# Altium footprint library 19inch.PCBLIB: 26 footprints (part 1 of 3)
Each footprint in its own frame and in the unit in brackets; x right, y up, seen from the top. Pads: shape width x height; smd on the part's side, far side on the other; paste and mask are expansions set on the pad; w line width, h text height; cw(c..) or ccw(c..) is an arc to the next point about the centre after c.
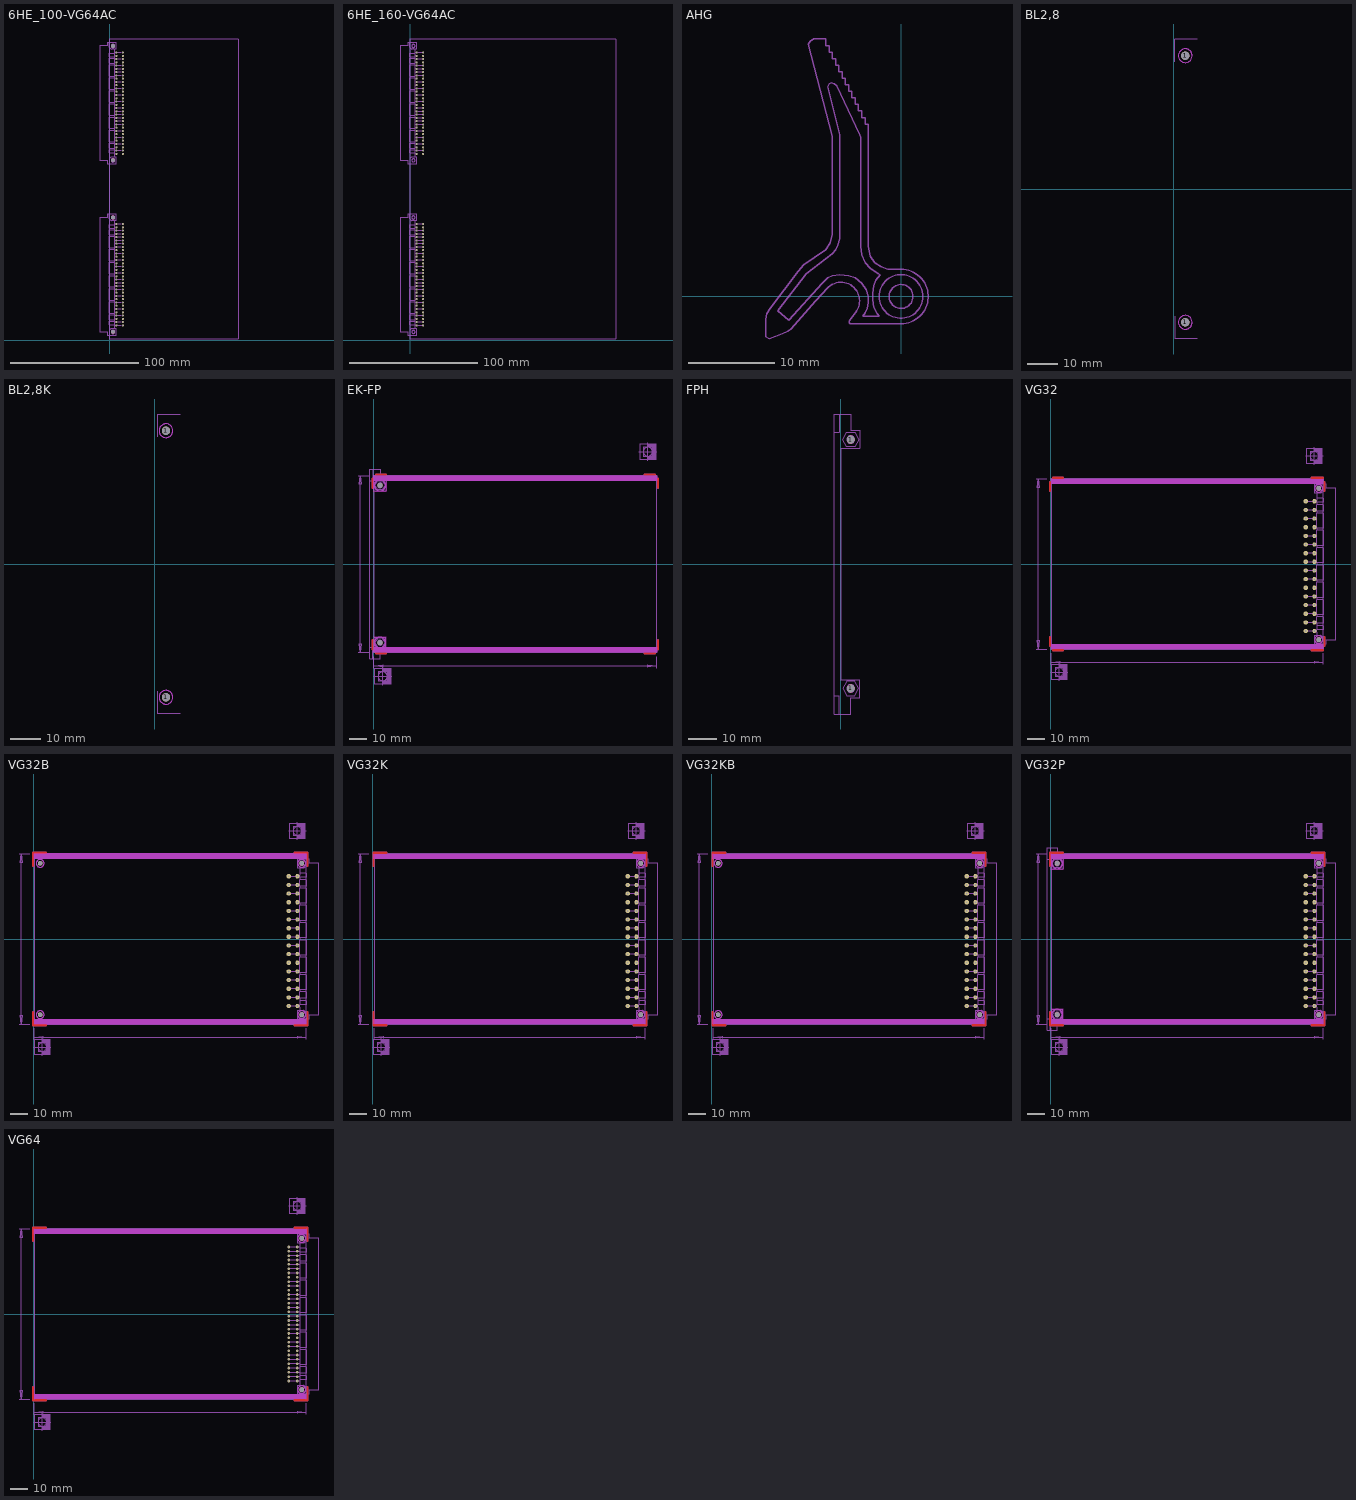
[diagram p0: the footprints below, top view; thin cyan lines are the x and y axes]

## 6HE_100-VG64AC [mil]
pads (132):
  round 110 hole 110: 1(100,250) 1(100,3750) 1(100,5500) 1(100,9000)
  oct 61x61 hole 36: 1-A1(200,450) 1-A2(200,650) 1-A3(200,550) 1-A4(200,750) 1-A5(200,850) 1-A6(200,950) 1-A7(200,1050) 1-A8(200,1150) 1-A9(200,1250) 1-A10(200,1350) 1-A11(200,1450) 1-A12(200,1550) 1-A13(200,1650) 1-A14(200,1750) 1-A15(200,1850) 1-A16(200,1950) 1-A17(200,2050) 1-A18(200,2150) 1-A19(200,2250) 1-A20(200,2350) 1-A21(200,2450) 1-A22(200,2550) 1-A23(200,2650) 1-A24(200,2750) 1-A25(200,2850) 1-A26(200,2950) 1-A27(200,3050) 1-A28(200,3150) 1-A29(200,3250) 1-A30(200,3350) 1-A31(200,3450) 1-A32(200,3550) 1-C1(400,450) 1-C2(400,550) 1-C3(400,650) 1-C4(400,750) 1-C5(400,850) 1-C6(400,950) 1-C7(400,1050) 1-C8(400,1150) 1-C9(400,1250) 1-C10(400,1350) 1-C11(400,1450) 1-C12(400,1550) 1-C13(400,1650) 1-C14(400,1750) 1-C15(400,1850) 1-C16(400,1950) 1-C17(400,2050) 1-C18(400,2150) 1-C19(400,2250) 1-C20(400,2350) 1-C21(400,2450) 1-C22(400,2550) 1-C23(400,2650) 1-C24(400,2750) 1-C25(400,2850) 1-C26(400,2950) 1-C27(400,3050) 1-C28(400,3150) 1-C29(400,3250) 1-C30(400,3350) 1-C31(400,3450) 1-C32(400,3550) 2-A1(200,5700) 2-A2(200,5800) 2-A3(200,5900) 2-A4(200,6000) 2-A5(200,6100) 2-A6(200,6200) 2-A7(200,6300) 2-A8(200,6400) 2-A9(200,6500) 2-A10(200,6600) 2-A11(200,6700) 2-A12(200,6800) 2-A13(200,6900) 2-A14(200,7000) 2-A15(200,7100) 2-A16(200,7200) 2-A17(200,7300) 2-A18(200,7400) 2-A19(200,7500) 2-A20(200,7600) 2-A21(200,7700) 2-A22(200,7800) 2-A23(200,7900) 2-A24(200,8000) 2-A25(200,8100) 2-A26(200,8200) 2-A27(200,8300) 2-A28(200,8400) 2-A29(200,8500) 2-A30(200,8600) 2-A31(200,8700) 2-A32(200,8800) 2-C1(400,5700) 2-C2(400,5800) 2-C3(400,5900) 2-C4(400,6000) 2-C5(400,6100) 2-C6(400,6200) 2-C7(400,6300) 2-C8(400,6400) 2-C9(400,6500) 2-C10(400,6600) 2-C11(400,6700) 2-C12(400,6800) 2-C13(400,6900) 2-C14(400,7000) 2-C15(400,7100) 2-C16(400,7200) 2-C17(400,7300) 2-C18(400,7400) 2-C19(400,7500) 2-C20(400,7600) 2-C21(400,7700) 2-C22(400,7800) 2-C23(400,7900) 2-C24(400,8000) 2-C25(400,8100) 2-C26(400,8200) 2-C27(400,8300) 2-C28(400,8400) 2-C29(400,8500) 2-C30(400,8600) 2-C31(400,8700) 2-C32(400,8800)
Mechanical 1:
  lines w0: -10.24,32 -10.24,9214 3926.77,9214 3926.77,32 -10.24,32
Mechanical 2:
  drawing of 268 lines, arcs and shapes, not listed
Mechanical 16:
  circle w0.04: c99.76,3750 r55
  circle w0.04: c99.76,5500 r55
  circle w0.04: c99.76,250 r55
  circle w0.04: c99.76,9000 r55
  lines w0: 42.79,250 99.76,250 ; 42.79,3750 99.76,3750 ; 42.79,9000 99.76,9000 ; 44.76,5500 99.76,5500 ; 99.76,193.46 99.76,250 ; 99.76,307.64 99.76,250 ; 99.76,3693.46 99.76,3750 ; 99.76,3806.98 99.76,3750 ; 99.76,5445.43 99.76,5500 ; 99.76,5555.01 99.76,5500 ; 99.76,8943.46 99.76,9000 ; 99.76,9056.98 99.76,9000 ; 155.43,5500 99.76,5500 ; 157.18,250 99.76,250 ; 157.4,3750 99.76,3750 ; 157.4,9000 99.76,9000

## 6HE_160-VG64AC [mil]
pads (128):
  oct 61x61 hole 36: 1-A1(200,450) 1-A2(200,650) 1-A3(200,550) 1-A4(200,750) 1-A5(200,850) 1-A6(200,950) 1-A7(200,1050) 1-A8(200,1150) 1-A9(200,1250) 1-A10(200,1350) 1-A11(200,1450) 1-A12(200,1550) 1-A13(200,1650) 1-A14(200,1750) 1-A15(200,1850) 1-A16(200,1950) 1-A17(200,2050) 1-A18(200,2150) 1-A19(200,2250) 1-A20(200,2350) 1-A21(200,2450) 1-A22(200,2550) 1-A23(200,2650) 1-A24(200,2750) 1-A25(200,2850) 1-A26(200,2950) 1-A27(200,3050) 1-A28(200,3150) 1-A29(200,3250) 1-A30(200,3350) 1-A31(200,3450) 1-A32(200,3550) 1-C1(400,450) 1-C2(400,550) 1-C3(400,650) 1-C4(400,750) 1-C5(400,850) 1-C6(400,950) 1-C7(400,1050) 1-C8(400,1150) 1-C9(400,1250) 1-C10(400,1350) 1-C11(400,1450) 1-C12(400,1550) 1-C13(400,1650) 1-C14(400,1750) 1-C15(400,1850) 1-C16(400,1950) 1-C17(400,2050) 1-C18(400,2150) 1-C19(400,2250) 1-C20(400,2350) 1-C21(400,2450) 1-C22(400,2550) 1-C23(400,2650) 1-C24(400,2750) 1-C25(400,2850) 1-C26(400,2950) 1-C27(400,3050) 1-C28(400,3150) 1-C29(400,3250) 1-C30(400,3350) 1-C31(400,3450) 1-C32(400,3550) 2-A1(200,5700) 2-A2(200,5800) 2-A3(200,5900) 2-A4(200,6000) 2-A5(200,6100) 2-A6(200,6200) 2-A7(200,6300) 2-A8(200,6400) 2-A9(200,6500) 2-A10(200,6600) 2-A11(200,6700) 2-A12(200,6800) 2-A13(200,6900) 2-A14(200,7000) 2-A15(200,7100) 2-A16(200,7200) 2-A17(200,7300) 2-A18(200,7400) 2-A19(200,7500) 2-A20(200,7600) 2-A21(200,7700) 2-A22(200,7800) 2-A23(200,7900) 2-A24(200,8000) 2-A25(200,8100) 2-A26(200,8200) 2-A27(200,8300) 2-A28(200,8400) 2-A29(200,8500) 2-A30(200,8600) 2-A31(200,8700) 2-A32(200,8800) 2-C1(400,5700) 2-C2(400,5800) 2-C3(400,5900) 2-C4(400,6000) 2-C5(400,6100) 2-C6(400,6200) 2-C7(400,6300) 2-C8(400,6400) 2-C9(400,6500) 2-C10(400,6600) 2-C11(400,6700) 2-C12(400,6800) 2-C13(400,6900) 2-C14(400,7000) 2-C15(400,7100) 2-C16(400,7200) 2-C17(400,7300) 2-C18(400,7400) 2-C19(400,7500) 2-C20(400,7600) 2-C21(400,7700) 2-C22(400,7800) 2-C23(400,7900) 2-C24(400,8000) 2-C25(400,8100) 2-C26(400,8200) 2-C27(400,8300) 2-C28(400,8400) 2-C29(400,8500) 2-C30(400,8600) 2-C31(400,8700) 2-C32(400,8800)
Mechanical 1:
  lines w0: -10.24,32 -10.24,9214 6288.98,9214 6288.98,32 -10.24,32
Mechanical 2:
  drawing of 272 lines, arcs and shapes, not listed

## AHG [mil]
Mechanical 2:
  circle w6: c0,0 r55
  circle w6: c0,0 r100
  lines w6: -337.89,37.18 cw(c-274.99,-20) -189.99,-20 cw(c-275.01,-19.99) -207.91,-72.19 ; -335,40 -390,-20 -505,-150 -520,-160 -545,-170 -605,-195 -620,-185 -620,-105 -615,-80 -600,-55 -470,115 -445,145 -345,215 -325,245 -315,285 -315,735 -425,1155 -415,1170 -400,1180 -345,1180 -345,1150 -330,1150 -330,1120 -315,1120 -315,1090 -300,1090 -300,1060 -285,1060 -285,1030 -270,1030 -270,1000 -255,1000 -255,970 -240,970 -240,940 -225,940 -225,910 -210,910 -210,880 -195,880 -195,850 -180,850 -180,820 -165,820 -165,790 -150,790 -150,230 -140,185 -120,155 -90,135 -60,125 0,125 cw(c0,0) 0,-125 -230,-125 cw(c-230,-117) -234.65,-110.49 ; -235,-110 -208,-72 ; -565,-65 -515,-110 -360,60 -335,85 -315,95 -280,100 -240,95 -210,85 -180,60 -160,30 -150,0 -150,-30 -155,-55 -165,-75 -175,-90 -100,-90 -110,-80 -125,-50 -130,-15 -130,15 -125,50 -115,75 -95,100 -105,105 -140,130 -165,155 -180,190 -185,230 -185,730 -190,740 -295,965 -305,975 -320,980 -330,975 -335,960 -280,740 -280,265 -290,235 -300,215 -315,195 -435,105 -565,-65

## BL2,8 [mil]
pads (2):
  round 110 hole 110: 1(150,-1750) 1(150,1750)
Mechanical 2:
  lines w6: 10,-1669 10,-1969 310,-1969 ; 10,1669 10,1969 310,1969
Mechanical 11 keep-out:
  circle w0: c150,-1750 r90
  circle w0: c150,1750 r90
Mechanical 12:
  circle w0: c150,-1750 r90
  circle w0: c150,1750 r90

## BL2,8K [mil]
pads (2):
  round 110 hole 110: 1(150,-1750) 1(150,1750)
Mechanical 2:
  lines w6: 40,-1669 40,-1969 340,-1969 ; 40,1669 40,1969 340,1969
Mechanical 11 keep-out:
  circle w0: c150,-1750 r90
  circle w0: c150,1750 r90
Mechanical 12:
  circle w0: c150,-1750 r90
  circle w0: c150,1750 r90

## EK-FP [mil]
pads (2):
  round 110 hole 110: 1(140,-1750) 1(140,1750)
Top Layer:
  lines w50: -25,-1900 -25,-1694 ; -25,1694 -25,1900 ; 50,-1994 275,-1994 ; 50,1994 275,1994 ; 6025,-1994 6250,-1994 ; 6025,1994 6250,1994 ; 6325,-1900 6325,-1694 ; 6325,1694 6325,1900
Bottom Layer:
  lines w50: -25,-1900 -25,-1694 ; -25,1694 -25,1900 ; 50,-1994 275,-1994 ; 50,1994 275,1994 ; 6025,-1994 6250,-1994 ; 6025,1994 6250,1994 ; 6325,-1900 6325,-1694 ; 6325,1694 6325,1900
Top Solder:
  lines w6: 0,-1669 0,-1969 300,-1969 ; 0,1669 0,1969 300,1969 ; 6000,-1969 6300,-1969 6300,-1669 ; 6000,1969 6300,1969 6300,1669
Bottom Solder:
  lines w6: 0,-1669 0,-1969 300,-1969 ; 0,1669 0,1969 300,1969 ; 6000,-1969 6300,-1969 6300,-1669 ; 6000,1969 6300,1969 6300,1669
Keep-Out Layer:
  rectangle: 10,1850 6310,1969
  rectangle: 10,1850 6310,1969
  rectangle: 10,-1969 6310,-1850
  rectangle: 10,-1969 6310,-1850
  lines w2: 0,-1615 275,-1615 ; 0,-1615 0,-1969 0,-1615 ; 0,-1615 275,-1615 ; 0,1615 275,1615 ; 0,1615 0,1969 0,1615 ; 0,1615 275,1615 ; 275,-1615 275,-1850 275,-1615 ; 275,1615 275,1850 275,1615 ; 6300,-1969 6300,-1850 6300,-1969 ; 6300,1850 6300,1969 6300,1850
Mechanical 1:
  lines w0: 0,-1969 6300,-1969 6300,1969 0,1969 0,-1969
Mechanical 2:
  circle w6: c140,-1750 r55
  circle w6: c140,1750 r55
  lines w6: -90,-1850 -90,-2110 -20,-2110 ; -90,-1850 -20,-1850 -20,-2110 ; -90,-1850 -90,1850 ; -90,1850 -20,1850 -20,2110 ; -90,1850 -90,2110 -20,2110 ; -20,-2110 140,-2110 140,-1880 265,-1880 265,-1625 0,-1625 0,1625 265,1625 265,1880 140,1880 140,2110 -20,2110 ; 25,-1750 85,-1650 195,-1650 255,-1750 195,-1850 85,-1850 25,-1750 ; 25,1750 85,1650 195,1650 255,1750 195,1850 85,1850 25,1750
Mechanical 11 keep-out:
  circle w0: c140,1750 r125
  circle w0: c140,-1750 r125
Mechanical 12:
  circle w0: c140,1750 r125
  circle w0: c140,-1750 r125
  rectangle: 10,1850 6310,1969
  rectangle: 10,-1969 6310,-1850
Mechanical 14:
  lines w6: -350,-1969 -300,-1969 ; -350,1969 -300,1969 ; -100,-1969 -300,-1969 ; -100,1969 -300,1969 ; 0,-2319 0,-2269 ; 0,-2069 0,-2269 ; 0,-1669 0,-1969 300,-1969 ; 0,1669 0,1969 300,1969 ; 6000,-1969 6300,-1969 6300,-1669 ; 6000,1969 6300,1969 6300,1669 ; 6300,-2319 6300,-2269 ; 6300,-2069 6300,-2269 ; -300,-1969 -300,1969 ; -300,-1969 -325,-1769 -275,-1769 -300,-1969 ; -300,1969 -275,1769 -325,1769 -300,1969 ; 0,-2269 6300,-2269 ; 0,-2269 200,-2244 200,-2294 0,-2269 ; 6300,-2269 6100,-2294 6100,-2244 6300,-2269
Mechanical 16:
  circle w10: c6100,2499 r100
  circle w10: c200,-2499 r100
  rectangle: 6100,2324 6275,2399
  rectangle: 6200,2399 6275,2599
  rectangle: 6100,2599 6275,2674
  rectangle: 200,-2674 375,-2599
  rectangle: 300,-2599 375,-2399
  rectangle: 200,-2399 375,-2324
  lines w4: 0,-2499 25,-2499 400,-2499 ; 200,-2699 200,-2299 ; 5900,2499 5925,2499 6300,2499 ; 6100,2299 6100,2699
  lines w10: 25,-2674 375,-2674 375,-2324 25,-2324 25,-2499 25,-2674 ; 100,-2599 100,-2399 300,-2399 300,-2599 100,-2599 ; 5925,2324 6275,2324 6275,2674 5925,2674 5925,2499 5925,2324 ; 6000,2399 6000,2599 6200,2599 6200,2399 6000,2399

## FPH [mil]
pads (2):
  round 110 hole 110: 1(140,-1750) 1(140,1750)
Mechanical 2:
  circle w6: c140,1750 r55
  circle w6: c140,-1750 r55
  lines w6: -90,-1850 -90,-2110 -20,-2110 ; -90,-1850 -20,-1850 -20,-2110 ; -90,-1850 -90,1850 ; -90,1850 -20,1850 -20,2110 ; -90,1850 -90,2110 -20,2110 ; -20,-2110 140,-2110 140,-1880 265,-1880 265,-1625 0,-1625 0,1625 265,1625 265,1880 140,1880 140,2110 -20,2110 ; 25,-1750 85,-1650 195,-1650 255,-1750 195,-1850 85,-1850 25,-1750 ; 25,1750 85,1650 195,1650 255,1750 195,1850 85,1850 25,1750

## VG32 [mil]
pads (34):
  round 110 hole 110: 1(6200,-1750) 1(6200,1750)
  oct 96.82x96.82 hole 40: A2(6100,1450) A4(6100,1250) A6(6100,1050) A8(6100,850) A10(6100,650) A12(6100,450) A14(6100,250) A16(6100,50) A18(6100,-150) A20(6100,-350) A22(6100,-550) A24(6100,-750) A26(6100,-950) A28(6100,-1150) A30(6100,-1350) A32(6100,-1550) C2(5900,1450) C4(5900,1250) C6(5900,1050) C8(5900,850) C10(5900,650) C12(5900,450) C14(5900,250) C16(5900,50) C18(5900,-150) C20(5900,-350) C22(5900,-550) C24(5900,-750) C26(5900,-950) C28(5900,-1150) C30(5900,-1350) C32(5900,-1550)
Top Layer:
  lines w50: -15,-1900 -15,-1694 ; -15,1694 -15,1900 ; 50,-1994 285,-1994 ; 50,1994 285,1994 ; 6035,-1994 6300,-1994 ; 6035,1994 6300,1994 ; 6335,-1900 6335,-1694 ; 6335,1694 6335,1900
Bottom Layer:
  lines w50: -15,-1900 -15,-1694 ; -15,1694 -15,1900 ; 50,-1994 285,-1994 ; 50,1994 285,1994 ; 6035,-1994 6300,-1994 ; 6035,1994 6300,1994 ; 6335,-1900 6335,-1694 ; 6335,1694 6335,1900
Top Solder:
  lines w6: 10,-1669 10,-1969 310,-1969 ; 10,1669 10,1969 310,1969 ; 6010,-1969 6310,-1969 6310,-1669 ; 6010,1969 6310,1969 6310,1669
Bottom Solder:
  lines w6: 10,-1669 10,-1969 310,-1969 ; 10,1669 10,1969 310,1969 ; 6010,-1969 6310,-1969 6310,-1669 ; 6010,1969 6310,1969 6310,1669
Keep-Out Layer:
  rectangle: 10,1850 6310,1969
  rectangle: 10,1850 6310,1969
  rectangle: 10,-1969 6310,-1850
  rectangle: 10,-1969 6310,-1850
Mechanical 1:
  lines w0: 10,-1969 6310,-1969 6310,1969 10,1969 10,-1969
Mechanical 2:
  circle w6: c6200,1750 r50
  circle w6: c6200,-1750 r50
  rectangle: 5955,-1560 6045,-1540
  rectangle: 5955,-1360 6045,-1340
  rectangle: 5955,-1160 6045,-1140
  rectangle: 5955,-960 6045,-940
  rectangle: 5955,-760 6045,-740
  rectangle: 5955,-560 6045,-540
  rectangle: 5955,-360 6045,-340
  rectangle: 5955,-160 6045,-140
  rectangle: 5955,40 6045,60
  rectangle: 5955,240 6045,260
  rectangle: 5955,440 6045,460
  rectangle: 5955,640 6045,660
  rectangle: 5955,840 6045,860
  rectangle: 5955,1040 6045,1060
  rectangle: 5955,1240 6045,1260
  rectangle: 5955,1440 6045,1460
  lines w2: 6150,-1525 6310,-1525 6310,-1425 6150,-1425 ; 6150,-1375 6310,-1375 6310,-1225 6150,-1225 ; 6150,-1175 6310,-1175 6310,-825 6150,-825 ; 6150,-775 6310,-775 6310,-425 6150,-425 ; 6150,-375 6310,-375 6310,-25 6150,-25 ; 6150,25 6310,25 6310,375 6150,375 ; 6150,425 6310,425 6310,775 6150,775 ; 6150,825 6310,825 6310,1175 6150,1175 ; 6150,1225 6310,1225 6310,1375 6150,1375 ; 6150,1425 6310,1425 6310,1525 6150,1525
  lines w6: 6150,-1575 6150,-1650 ; 6150,-1525 6150,-1425 6150,-1375 ; 6150,-1325 6150,-1225 6150,-1175 ; 6150,-1125 6150,-975 ; 6150,-925 6150,-825 6150,-775 ; 6150,-725 6150,-575 ; 6150,-525 6150,-425 6150,-375 ; 6150,-325 6150,-175 ; 6150,-125 6150,-25 6150,25 ; 6150,75 6150,225 ; 6150,275 6150,375 6150,425 ; 6150,475 6150,625 ; 6150,675 6150,775 6150,825 ; 6150,875 6150,1025 ; 6150,1075 6150,1175 6150,1225 ; 6150,1275 6150,1375 6150,1425 ; 6150,1475 6150,1525 6150,1650 ; 6150,-1650 6100,-1650 6100,-1850 6313,-1850 ; 6150,-1650 6250,-1650 6313,-1713 6313,-1850 ; 6150,1650 6100,1650 6100,1850 6313,1850 ; 6150,1650 6263,1650 6313,1700 6313,1850 ; 6313,-1850 6375,-1850 6375,-1750 6600,-1750 6600,1750 6375,1750 6375,1850 6313,1850
Mechanical 11 keep-out:
  circle w0: c6200,1750 r90
  circle w0: c6200,-1750 r90
Mechanical 12:
  circle w0: c6200,1750 r90
  circle w0: c6200,-1750 r90
  rectangle: 10,1850 6310,1969
  rectangle: 10,-1969 6310,-1850
Mechanical 14:
  lines w6: -340,-1969 -290,-1969 ; -340,1969 -290,1969 ; -90,-1969 -290,-1969 ; -90,1969 -290,1969 ; 10,-2319 10,-2269 ; 10,-2069 10,-2269 ; 10,-1669 10,-1969 310,-1969 ; 10,1669 10,1969 310,1969 ; 6010,-1969 6310,-1969 6310,-1669 ; 6010,1969 6310,1969 6310,1669 ; 6310,-2319 6310,-2269 ; 6310,-2069 6310,-2269 ; -290,-1969 -290,1969 ; -290,-1969 -315,-1769 -265,-1769 -290,-1969 ; -290,1969 -265,1769 -315,1769 -290,1969 ; 10,-2269 6310,-2269 ; 10,-2269 210,-2244 210,-2294 10,-2269 ; 6310,-2269 6110,-2294 6110,-2244 6310,-2269
Mechanical 16:
  circle w10: c6100,2499 r100
  circle w10: c200,-2499 r100
  rectangle: 6100,2324 6275,2399
  rectangle: 6200,2399 6275,2599
  rectangle: 6100,2599 6275,2674
  rectangle: 200,-2674 375,-2599
  rectangle: 300,-2599 375,-2399
  rectangle: 200,-2399 375,-2324
  lines w4: 0,-2499 25,-2499 400,-2499 ; 200,-2699 200,-2299 ; 5900,2499 5925,2499 6300,2499 ; 6100,2299 6100,2699
  lines w10: 25,-2674 375,-2674 375,-2324 25,-2324 25,-2499 25,-2674 ; 100,-2599 100,-2399 300,-2399 300,-2599 100,-2599 ; 5925,2324 6275,2324 6275,2674 5925,2674 5925,2499 5925,2324 ; 6000,2399 6000,2599 6200,2599 6200,2399 6000,2399
Mechanical 18:
  rectangle: 5890,-1560 5955,-1540
  rectangle: 6045,-1560 6150,-1540
  rectangle: 5890,-1360 5955,-1340
  rectangle: 6045,-1360 6150,-1340
  rectangle: 5890,-1160 5955,-1140
  rectangle: 6045,-1160 6150,-1140
  rectangle: 5890,-960 5955,-940
  rectangle: 6045,-960 6150,-940
  rectangle: 5890,-760 5955,-740
  rectangle: 6045,-760 6150,-740
  rectangle: 5890,-560 5955,-540
  rectangle: 6045,-560 6150,-540
  rectangle: 5890,-360 5955,-340
  rectangle: 6045,-360 6150,-340
  rectangle: 5890,-160 5955,-140
  rectangle: 6045,-160 6150,-140
  rectangle: 5890,40 5955,60
  rectangle: 6045,40 6150,60
  rectangle: 5890,240 5955,260
  rectangle: 6045,240 6150,260
  rectangle: 5890,440 5955,460
  rectangle: 6045,440 6150,460
  rectangle: 5890,640 5955,660
  rectangle: 6045,640 6150,660
  rectangle: 5890,840 5955,860
  rectangle: 6045,840 6150,860
  rectangle: 5890,1040 5955,1060
  rectangle: 6045,1040 6150,1060
  rectangle: 5890,1240 5955,1260
  rectangle: 6045,1240 6150,1260
  rectangle: 5890,1440 5955,1460
  rectangle: 6045,1440 6150,1460
  lines w6: 6150,-1575 6150,-1525 ; 6150,-1375 6150,-1325 ; 6150,-1175 6150,-1125 ; 6150,-975 6150,-925 ; 6150,-775 6150,-725 ; 6150,-575 6150,-525 ; 6150,-375 6150,-325 ; 6150,-175 6150,-125 ; 6150,25 6150,75 ; 6150,225 6150,275 ; 6150,425 6150,475 ; 6150,625 6150,675 ; 6150,825 6150,875 ; 6150,1025 6150,1075 ; 6150,1225 6150,1275 ; 6150,1425 6150,1475

## VG32B [mil]
pads (36):
  round 110 hole 110: 1(150,-1750) 1(150,1750) 1(6200,-1750) 1(6200,1750)
  oct 96.82x96.82 hole 40: A2(6100,1450) A4(6100,1250) A6(6100,1050) A8(6100,850) A10(6100,650) A12(6100,450) A14(6100,250) A16(6100,50) A18(6100,-150) A20(6100,-350) A22(6100,-550) A24(6100,-750) A26(6100,-950) A28(6100,-1150) A30(6100,-1350) A32(6100,-1550) C2(5900,1450) C4(5900,1250) C6(5900,1050) C8(5900,850) C10(5900,650) C12(5900,450) C14(5900,250) C16(5900,50) C18(5900,-150) C20(5900,-350) C22(5900,-550) C24(5900,-750) C26(5900,-950) C28(5900,-1150) C30(5900,-1350) C32(5900,-1550)
Top Layer:
  lines w50: -15,-1694 -15,-1994 285,-1994 ; -15,1694 -15,1994 285,1994 ; 6035,-1994 6335,-1994 6335,-1694 ; 6035,1994 6335,1994 6335,1694
Bottom Layer:
  lines w50: -15,-1694 -15,-1994 285,-1994 ; -15,1694 -15,1994 285,1994 ; 6035,-1994 6335,-1994 6335,-1694 ; 6035,1994 6335,1994 6335,1694
Top Solder:
  lines w6: 10,-1669 10,-1969 310,-1969 ; 10,1669 10,1969 310,1969 ; 6010,-1969 6310,-1969 6310,-1669 ; 6010,1969 6310,1969 6310,1669
Bottom Solder:
  lines w6: 10,-1669 10,-1969 310,-1969 ; 10,1669 10,1969 310,1969 ; 6010,-1969 6310,-1969 6310,-1669 ; 6010,1969 6310,1969 6310,1669
Keep-Out Layer:
  rectangle: 10,1850 6310,1969
  rectangle: 10,1850 6310,1969
  rectangle: 10,-1969 6310,-1850
  rectangle: 10,-1969 6310,-1850
  lines w2: 10,-1969 10,-1850 10,-1969 ; 10,-1969 6310,-1969 ; 10,-1969 6310,-1969 ; 10,1969 10,1850 10,1969 ; 10,1969 6310,1969 ; 10,1969 6310,1969 ; 6310,-1969 6310,-1850 6310,-1969 ; 6310,1969 6310,1850 6310,1969
Mechanical 1:
  lines w0: 10,-1969 6310,-1969 6310,1969 10,1969 10,-1969
Mechanical 2:
  circle w6: c6200,1750 r50
  circle w6: c6200,-1750 r50
  rectangle: 5955,-1560 6045,-1540
  rectangle: 5955,-1360 6045,-1340
  rectangle: 5955,-1160 6045,-1140
  rectangle: 5955,-960 6045,-940
  rectangle: 5955,-760 6045,-740
  rectangle: 5955,-560 6045,-540
  rectangle: 5955,-360 6045,-340
  rectangle: 5955,-160 6045,-140
  rectangle: 5955,40 6045,60
  rectangle: 5955,240 6045,260
  rectangle: 5955,440 6045,460
  rectangle: 5955,640 6045,660
  rectangle: 5955,840 6045,860
  rectangle: 5955,1040 6045,1060
  rectangle: 5955,1240 6045,1260
  rectangle: 5955,1440 6045,1460
  lines w2: 6150,-1525 6310,-1525 6310,-1425 6150,-1425 ; 6150,-1375 6310,-1375 6310,-1225 6150,-1225 ; 6150,-1175 6310,-1175 6310,-825 6150,-825 ; 6150,-775 6310,-775 6310,-425 6150,-425 ; 6150,-375 6310,-375 6310,-25 6150,-25 ; 6150,25 6310,25 6310,375 6150,375 ; 6150,425 6310,425 6310,775 6150,775 ; 6150,825 6310,825 6310,1175 6150,1175 ; 6150,1225 6310,1225 6310,1375 6150,1375 ; 6150,1425 6310,1425 6310,1525 6150,1525
  lines w6: 6150,-1575 6150,-1650 ; 6150,-1525 6150,-1425 6150,-1375 ; 6150,-1325 6150,-1225 6150,-1175 ; 6150,-1125 6150,-975 ; 6150,-925 6150,-825 6150,-775 ; 6150,-725 6150,-575 ; 6150,-525 6150,-425 6150,-375 ; 6150,-325 6150,-175 ; 6150,-125 6150,-25 6150,25 ; 6150,75 6150,225 ; 6150,275 6150,375 6150,425 ; 6150,475 6150,625 ; 6150,675 6150,775 6150,825 ; 6150,875 6150,1025 ; 6150,1075 6150,1175 6150,1225 ; 6150,1275 6150,1375 6150,1425 ; 6150,1475 6150,1525 6150,1650 ; 6150,-1650 6100,-1650 6100,-1850 6313,-1850 ; 6150,-1650 6250,-1650 6313,-1713 6313,-1850 ; 6150,1650 6100,1650 6100,1850 6313,1850 ; 6150,1650 6263,1650 6313,1700 6313,1850 ; 6313,-1850 6375,-1850 6375,-1750 6600,-1750 6600,1750 6375,1750 6375,1850 6313,1850
Mechanical 11 keep-out:
  circle w0: c6200,1750 r90
  circle w0: c6200,-1750 r90
  circle w0: c150,-1750 r90
  circle w0: c150,1750 r90
Mechanical 12:
  circle w0: c6200,1750 r90
  circle w0: c6200,-1750 r90
  circle w0: c150,-1750 r90
  circle w0: c150,1750 r90
  rectangle: 10,1850 6310,1969
  rectangle: 10,-1969 6310,-1850
Mechanical 14:
  lines w6: -340,-1969 -290,-1969 ; -340,1969 -290,1969 ; -90,-1969 -290,-1969 ; -90,1969 -290,1969 ; 10,-2319 10,-2269 ; 10,-2069 10,-2269 ; 10,-1669 10,-1969 310,-1969 ; 10,1669 10,1969 310,1969 ; 6010,-1969 6310,-1969 6310,-1669 ; 6010,1969 6310,1969 6310,1669 ; 6310,-2319 6310,-2269 ; 6310,-2069 6310,-2269 ; -290,-1969 -290,1969 ; -290,-1969 -315,-1769 -265,-1769 -290,-1969 ; -290,1969 -265,1769 -315,1769 -290,1969 ; 10,-2269 6310,-2269 ; 10,-2269 210,-2244 210,-2294 10,-2269 ; 6310,-2269 6110,-2294 6110,-2244 6310,-2269
Mechanical 16:
  circle w10: c6100,2499 r100
  circle w10: c200,-2499 r100
  rectangle: 6100,2324 6275,2399
  rectangle: 6200,2399 6275,2599
  rectangle: 6100,2599 6275,2674
  rectangle: 200,-2674 375,-2599
  rectangle: 300,-2599 375,-2399
  rectangle: 200,-2399 375,-2324
  lines w4: 0,-2499 25,-2499 400,-2499 ; 200,-2699 200,-2299 ; 5900,2499 5925,2499 6300,2499 ; 6100,2299 6100,2699
  lines w10: 25,-2674 375,-2674 375,-2324 25,-2324 25,-2499 25,-2674 ; 100,-2599 100,-2399 300,-2399 300,-2599 100,-2599 ; 5925,2324 6275,2324 6275,2674 5925,2674 5925,2499 5925,2324 ; 6000,2399 6000,2599 6200,2599 6200,2399 6000,2399
Mechanical 18:
  rectangle: 5890,-1560 5955,-1540
  rectangle: 6045,-1560 6150,-1540
  rectangle: 5890,-1360 5955,-1340
  rectangle: 6045,-1360 6150,-1340
  rectangle: 5890,-1160 5955,-1140
  rectangle: 6045,-1160 6150,-1140
  rectangle: 5890,-960 5955,-940
  rectangle: 6045,-960 6150,-940
  rectangle: 5890,-760 5955,-740
  rectangle: 6045,-760 6150,-740
  rectangle: 5890,-560 5955,-540
  rectangle: 6045,-560 6150,-540
  rectangle: 5890,-360 5955,-340
  rectangle: 6045,-360 6150,-340
  rectangle: 5890,-160 5955,-140
  rectangle: 6045,-160 6150,-140
  rectangle: 5890,40 5955,60
  rectangle: 6045,40 6150,60
  rectangle: 5890,240 5955,260
  rectangle: 6045,240 6150,260
  rectangle: 5890,440 5955,460
  rectangle: 6045,440 6150,460
  rectangle: 5890,640 5955,660
  rectangle: 6045,640 6150,660
  rectangle: 5890,840 5955,860
  rectangle: 6045,840 6150,860
  rectangle: 5890,1040 5955,1060
  rectangle: 6045,1040 6150,1060
  rectangle: 5890,1240 5955,1260
  rectangle: 6045,1240 6150,1260
  rectangle: 5890,1440 5955,1460
  rectangle: 6045,1440 6150,1460
  lines w6: 6150,-1575 6150,-1525 ; 6150,-1375 6150,-1325 ; 6150,-1175 6150,-1125 ; 6150,-975 6150,-925 ; 6150,-775 6150,-725 ; 6150,-575 6150,-525 ; 6150,-375 6150,-325 ; 6150,-175 6150,-125 ; 6150,25 6150,75 ; 6150,225 6150,275 ; 6150,425 6150,475 ; 6150,625 6150,675 ; 6150,825 6150,875 ; 6150,1025 6150,1075 ; 6150,1225 6150,1275 ; 6150,1425 6150,1475

## VG32K [mil]
pads (34):
  round 110 hole 110: 1(6200,-1750) 1(6200,1750)
  oct 96.82x96.82 hole 40: A2(6100,1450) A4(6100,1250) A6(6100,1050) A8(6100,850) A10(6100,650) A12(6100,450) A14(6100,250) A16(6100,50) A18(6100,-150) A20(6100,-350) A22(6100,-550) A24(6100,-750) A26(6100,-950) A28(6100,-1150) A30(6100,-1350) A32(6100,-1550) C2(5900,1450) C4(5900,1250) C6(5900,1050) C8(5900,850) C10(5900,650) C12(5900,450) C14(5900,250) C16(5900,50) C18(5900,-150) C20(5900,-350) C22(5900,-550) C24(5900,-750) C26(5900,-950) C28(5900,-1150) C30(5900,-1350) C32(5900,-1550)
Top Layer:
  lines w50: 15,-1694 15,-1994 315,-1994 ; 15,1694 15,1994 315,1994 ; 6035,-1994 6335,-1994 6335,-1694 ; 6035,1994 6335,1994 6335,1694
Bottom Layer:
  lines w50: 15,-1694 15,-1994 315,-1994 ; 15,1694 15,1994 315,1994 ; 6035,-1994 6335,-1994 6335,-1694 ; 6035,1994 6335,1994 6335,1694
Top Solder:
  lines w6: 40,-1669 40,-1969 340,-1969 ; 40,1669 40,1969 340,1969 ; 6010,-1969 6310,-1969 6310,-1669 ; 6010,1969 6310,1969 6310,1669
Bottom Solder:
  lines w6: 40,-1669 40,-1969 340,-1969 ; 40,1669 40,1969 340,1969 ; 6010,-1969 6310,-1969 6310,-1669 ; 6010,1969 6310,1969 6310,1669
Keep-Out Layer:
  rectangle: 10,1850 6310,1969
  rectangle: 10,1850 6310,1969
  rectangle: 10,-1969 6310,-1850
  rectangle: 10,-1969 6310,-1850
  lines w2: 6310,-1969 6310,-1850 6310,-1969 ; 6310,1850 6310,1969 6310,1850
Mechanical 1:
  lines w0: 40,-1969 40,1969 6310,1969 6310,-1969 40,-1969
Mechanical 2:
  circle w6: c6200,1750 r50
  circle w6: c6200,-1750 r50
  rectangle: 5955,-1560 6045,-1540
  rectangle: 5955,-1360 6045,-1340
  rectangle: 5955,-1160 6045,-1140
  rectangle: 5955,-960 6045,-940
  rectangle: 5955,-760 6045,-740
  rectangle: 5955,-560 6045,-540
  rectangle: 5955,-360 6045,-340
  rectangle: 5955,-160 6045,-140
  rectangle: 5955,40 6045,60
  rectangle: 5955,240 6045,260
  rectangle: 5955,440 6045,460
  rectangle: 5955,640 6045,660
  rectangle: 5955,840 6045,860
  rectangle: 5955,1040 6045,1060
  rectangle: 5955,1240 6045,1260
  rectangle: 5955,1440 6045,1460
  lines w2: 6150,-1525 6310,-1525 6310,-1425 6150,-1425 ; 6150,-1375 6310,-1375 6310,-1225 6150,-1225 ; 6150,-1175 6310,-1175 6310,-825 6150,-825 ; 6150,-775 6310,-775 6310,-425 6150,-425 ; 6150,-375 6310,-375 6310,-25 6150,-25 ; 6150,25 6310,25 6310,375 6150,375 ; 6150,425 6310,425 6310,775 6150,775 ; 6150,825 6310,825 6310,1175 6150,1175 ; 6150,1225 6310,1225 6310,1375 6150,1375 ; 6150,1425 6310,1425 6310,1525 6150,1525
  lines w6: 6150,-1575 6150,-1650 ; 6150,-1525 6150,-1425 6150,-1375 ; 6150,-1325 6150,-1225 6150,-1175 ; 6150,-1125 6150,-975 ; 6150,-925 6150,-825 6150,-775 ; 6150,-725 6150,-575 ; 6150,-525 6150,-425 6150,-375 ; 6150,-325 6150,-175 ; 6150,-125 6150,-25 6150,25 ; 6150,75 6150,225 ; 6150,275 6150,375 6150,425 ; 6150,475 6150,625 ; 6150,675 6150,775 6150,825 ; 6150,875 6150,1025 ; 6150,1075 6150,1175 6150,1225 ; 6150,1275 6150,1375 6150,1425 ; 6150,1475 6150,1525 6150,1650 ; 6150,-1650 6100,-1650 6100,-1850 6313,-1850 ; 6150,-1650 6250,-1650 6313,-1713 6313,-1850 ; 6150,1650 6100,1650 6100,1850 6313,1850 ; 6150,1650 6263,1650 6313,1700 6313,1850 ; 6313,-1850 6375,-1850 6375,-1750 6600,-1750 6600,1750 6375,1750 6375,1850 6313,1850
Mechanical 11 keep-out:
  circle w0: c6200,-1750 r90
  circle w0: c6200,1750 r90
Mechanical 12:
  circle w0: c6200,-1750 r90
  circle w0: c6200,1750 r90
  rectangle: 10,1850 6310,1969
  rectangle: 10,-1969 6310,-1850
Mechanical 14:
  lines w6: -340,-1969 -290,-1969 ; -340,1969 -290,1969 ; -90,-1969 -290,-1969 ; -90,1969 -290,1969 ; 40,-2319 40,-2269 ; 40,-2069 40,-2269 ; 40,-1669 40,-1969 340,-1969 ; 40,1669 40,1969 340,1969 ; 6010,-1969 6310,-1969 6310,-1669 ; 6010,1969 6310,1969 6310,1669 ; 6310,-2319 6310,-2269 ; 6310,-2069 6310,-2269 ; -290,-1969 -290,1969 ; -290,-1969 -315,-1769 -265,-1769 -290,-1969 ; -290,1969 -265,1769 -315,1769 -290,1969 ; 40,-2269 6310,-2269 ; 40,-2269 240,-2244 240,-2294 40,-2269 ; 6310,-2269 6110,-2294 6110,-2244 6310,-2269
Mechanical 16:
  circle w10: c6100,2499 r100
  circle w10: c200,-2499 r100
  rectangle: 6100,2324 6275,2399
  rectangle: 6200,2399 6275,2599
  rectangle: 6100,2599 6275,2674
  rectangle: 200,-2674 375,-2599
  rectangle: 300,-2599 375,-2399
  rectangle: 200,-2399 375,-2324
  lines w4: 0,-2499 25,-2499 400,-2499 ; 200,-2699 200,-2299 ; 5900,2499 5925,2499 6300,2499 ; 6100,2299 6100,2699
  lines w10: 25,-2674 375,-2674 375,-2324 25,-2324 25,-2499 25,-2674 ; 100,-2599 100,-2399 300,-2399 300,-2599 100,-2599 ; 5925,2324 6275,2324 6275,2674 5925,2674 5925,2499 5925,2324 ; 6000,2399 6000,2599 6200,2599 6200,2399 6000,2399
Mechanical 18:
  rectangle: 5890,-1560 5955,-1540
  rectangle: 6045,-1560 6150,-1540
  rectangle: 5890,-1360 5955,-1340
  rectangle: 6045,-1360 6150,-1340
  rectangle: 5890,-1160 5955,-1140
  rectangle: 6045,-1160 6150,-1140
  rectangle: 5890,-960 5955,-940
  rectangle: 6045,-960 6150,-940
  rectangle: 5890,-760 5955,-740
  rectangle: 6045,-760 6150,-740
  rectangle: 5890,-560 5955,-540
  rectangle: 6045,-560 6150,-540
  rectangle: 5890,-360 5955,-340
  rectangle: 6045,-360 6150,-340
  rectangle: 5890,-160 5955,-140
  rectangle: 6045,-160 6150,-140
  rectangle: 5890,40 5955,60
  rectangle: 6045,40 6150,60
  rectangle: 5890,240 5955,260
  rectangle: 6045,240 6150,260
  rectangle: 5890,440 5955,460
  rectangle: 6045,440 6150,460
  rectangle: 5890,640 5955,660
  rectangle: 6045,640 6150,660
  rectangle: 5890,840 5955,860
  rectangle: 6045,840 6150,860
  rectangle: 5890,1040 5955,1060
  rectangle: 6045,1040 6150,1060
  rectangle: 5890,1240 5955,1260
  rectangle: 6045,1240 6150,1260
  rectangle: 5890,1440 5955,1460
  rectangle: 6045,1440 6150,1460
  lines w6: 6150,-1575 6150,-1525 ; 6150,-1375 6150,-1325 ; 6150,-1175 6150,-1125 ; 6150,-975 6150,-925 ; 6150,-775 6150,-725 ; 6150,-575 6150,-525 ; 6150,-375 6150,-325 ; 6150,-175 6150,-125 ; 6150,25 6150,75 ; 6150,225 6150,275 ; 6150,425 6150,475 ; 6150,625 6150,675 ; 6150,825 6150,875 ; 6150,1025 6150,1075 ; 6150,1225 6150,1275 ; 6150,1425 6150,1475

## VG32KB [mil]
pads (36):
  round 110 hole 110: 1(150,-1750) 1(150,1750) 1(6200,-1750) 1(6200,1750)
  oct 96.82x96.82 hole 40: A2(6100,1450) A4(6100,1250) A6(6100,1050) A8(6100,850) A10(6100,650) A12(6100,450) A14(6100,250) A16(6100,50) A18(6100,-150) A20(6100,-350) A22(6100,-550) A24(6100,-750) A26(6100,-950) A28(6100,-1150) A30(6100,-1350) A32(6100,-1550) C2(5900,1450) C4(5900,1250) C6(5900,1050) C8(5900,850) C10(5900,650) C12(5900,450) C14(5900,250) C16(5900,50) C18(5900,-150) C20(5900,-350) C22(5900,-550) C24(5900,-750) C26(5900,-950) C28(5900,-1150) C30(5900,-1350) C32(5900,-1550)
Top Layer:
  lines w50: 15,-1694 15,-1994 315,-1994 ; 15,1694 15,1994 315,1994 ; 6035,-1994 6335,-1994 6335,-1694 ; 6035,1994 6335,1994 6335,1694
Bottom Layer:
  lines w50: 15,-1694 15,-1994 315,-1994 ; 15,1694 15,1994 315,1994 ; 6035,-1994 6335,-1994 6335,-1694 ; 6035,1994 6335,1994 6335,1694
Top Solder:
  lines w6: 40,-1669 40,-1969 340,-1969 ; 40,1669 40,1969 340,1969 ; 6010,-1969 6310,-1969 6310,-1669 ; 6010,1969 6310,1969 6310,1669
Bottom Solder:
  lines w6: 40,-1669 40,-1969 340,-1969 ; 40,1669 40,1969 340,1969 ; 6010,-1969 6310,-1969 6310,-1669 ; 6010,1969 6310,1969 6310,1669
Keep-Out Layer:
  rectangle: 10,1850 6310,1969
  rectangle: 10,1850 6310,1969
  rectangle: 10,-1969 6310,-1850
  rectangle: 10,-1969 6310,-1850
  lines w2: 40,-1969 40,-1850 40,-1969 ; 40,1850 40,1969 40,1850 ; 6310,-1969 6310,-1850 6310,-1969 ; 6310,1850 6310,1969 6310,1850
Mechanical 1:
  lines w0: 40,-1969 6310,-1969 6310,1969 40,1969 40,-1969
Mechanical 2:
  circle w6: c6200,1750 r50
  circle w6: c6200,-1750 r50
  rectangle: 5955,-1560 6045,-1540
  rectangle: 5955,-1360 6045,-1340
  rectangle: 5955,-1160 6045,-1140
  rectangle: 5955,-960 6045,-940
  rectangle: 5955,-760 6045,-740
  rectangle: 5955,-560 6045,-540
  rectangle: 5955,-360 6045,-340
  rectangle: 5955,-160 6045,-140
  rectangle: 5955,40 6045,60
  rectangle: 5955,240 6045,260
  rectangle: 5955,440 6045,460
  rectangle: 5955,640 6045,660
  rectangle: 5955,840 6045,860
  rectangle: 5955,1040 6045,1060
  rectangle: 5955,1240 6045,1260
  rectangle: 5955,1440 6045,1460
  lines w2: 6150,-1525 6310,-1525 6310,-1425 6150,-1425 ; 6150,-1375 6310,-1375 6310,-1225 6150,-1225 ; 6150,-1175 6310,-1175 6310,-825 6150,-825 ; 6150,-775 6310,-775 6310,-425 6150,-425 ; 6150,-375 6310,-375 6310,-25 6150,-25 ; 6150,25 6310,25 6310,375 6150,375 ; 6150,425 6310,425 6310,775 6150,775 ; 6150,825 6310,825 6310,1175 6150,1175 ; 6150,1225 6310,1225 6310,1375 6150,1375 ; 6150,1425 6310,1425 6310,1525 6150,1525
  lines w6: 6150,-1575 6150,-1650 ; 6150,-1525 6150,-1425 6150,-1375 ; 6150,-1325 6150,-1225 6150,-1175 ; 6150,-1125 6150,-975 ; 6150,-925 6150,-825 6150,-775 ; 6150,-725 6150,-575 ; 6150,-525 6150,-425 6150,-375 ; 6150,-325 6150,-175 ; 6150,-125 6150,-25 6150,25 ; 6150,75 6150,225 ; 6150,275 6150,375 6150,425 ; 6150,475 6150,625 ; 6150,675 6150,775 6150,825 ; 6150,875 6150,1025 ; 6150,1075 6150,1175 6150,1225 ; 6150,1275 6150,1375 6150,1425 ; 6150,1475 6150,1525 6150,1650 ; 6150,-1650 6100,-1650 6100,-1850 6313,-1850 ; 6150,-1650 6250,-1650 6313,-1713 6313,-1850 ; 6150,1650 6100,1650 6100,1850 6313,1850 ; 6150,1650 6263,1650 6313,1700 6313,1850 ; 6313,-1850 6375,-1850 6375,-1750 6600,-1750 6600,1750 6375,1750 6375,1850 6313,1850
Mechanical 11 keep-out:
  circle w0: c6200,-1750 r90
  circle w0: c6200,1750 r90
  circle w0: c150,-1750 r90
  circle w0: c150,1750 r90
Mechanical 12:
  circle w0: c6200,-1750 r90
  circle w0: c6200,1750 r90
  circle w0: c150,-1750 r90
  circle w0: c150,1750 r90
  rectangle: 10,1850 6310,1969
  rectangle: 10,-1969 6310,-1850
Mechanical 14:
  lines w6: -340,-1969 -290,-1969 ; -340,1969 -290,1969 ; -90,-1969 -290,-1969 ; -90,1969 -290,1969 ; 40,-2319 40,-2269 ; 40,-2069 40,-2269 ; 40,-1669 40,-1969 340,-1969 ; 40,1669 40,1969 340,1969 ; 6010,-1969 6310,-1969 6310,-1669 ; 6010,1969 6310,1969 6310,1669 ; 6310,-2319 6310,-2269 ; 6310,-2069 6310,-2269 ; -290,-1969 -290,1969 ; -290,-1969 -315,-1769 -265,-1769 -290,-1969 ; -290,1969 -265,1769 -315,1769 -290,1969 ; 40,-2269 6310,-2269 ; 40,-2269 240,-2244 240,-2294 40,-2269 ; 6310,-2269 6110,-2294 6110,-2244 6310,-2269
Mechanical 16:
  circle w10: c6100,2499 r100
  circle w10: c200,-2499 r100
  rectangle: 6100,2324 6275,2399
  rectangle: 6200,2399 6275,2599
  rectangle: 6100,2599 6275,2674
  rectangle: 200,-2674 375,-2599
  rectangle: 300,-2599 375,-2399
  rectangle: 200,-2399 375,-2324
  lines w4: 0,-2499 25,-2499 400,-2499 ; 200,-2699 200,-2299 ; 5900,2499 5925,2499 6300,2499 ; 6100,2299 6100,2699
  lines w10: 25,-2674 375,-2674 375,-2324 25,-2324 25,-2499 25,-2674 ; 100,-2599 100,-2399 300,-2399 300,-2599 100,-2599 ; 5925,2324 6275,2324 6275,2674 5925,2674 5925,2499 5925,2324 ; 6000,2399 6000,2599 6200,2599 6200,2399 6000,2399
Mechanical 18:
  rectangle: 5890,-1560 5955,-1540
  rectangle: 6045,-1560 6150,-1540
  rectangle: 5890,-1360 5955,-1340
  rectangle: 6045,-1360 6150,-1340
  rectangle: 5890,-1160 5955,-1140
  rectangle: 6045,-1160 6150,-1140
  rectangle: 5890,-960 5955,-940
  rectangle: 6045,-960 6150,-940
  rectangle: 5890,-760 5955,-740
  rectangle: 6045,-760 6150,-740
  rectangle: 5890,-560 5955,-540
  rectangle: 6045,-560 6150,-540
  rectangle: 5890,-360 5955,-340
  rectangle: 6045,-360 6150,-340
  rectangle: 5890,-160 5955,-140
  rectangle: 6045,-160 6150,-140
  rectangle: 5890,40 5955,60
  rectangle: 6045,40 6150,60
  rectangle: 5890,240 5955,260
  rectangle: 6045,240 6150,260
  rectangle: 5890,440 5955,460
  rectangle: 6045,440 6150,460
  rectangle: 5890,640 5955,660
  rectangle: 6045,640 6150,660
  rectangle: 5890,840 5955,860
  rectangle: 6045,840 6150,860
  rectangle: 5890,1040 5955,1060
  rectangle: 6045,1040 6150,1060
  rectangle: 5890,1240 5955,1260
  rectangle: 6045,1240 6150,1260
  rectangle: 5890,1440 5955,1460
  rectangle: 6045,1440 6150,1460
  lines w6: 6150,-1575 6150,-1525 ; 6150,-1375 6150,-1325 ; 6150,-1175 6150,-1125 ; 6150,-975 6150,-925 ; 6150,-775 6150,-725 ; 6150,-575 6150,-525 ; 6150,-375 6150,-325 ; 6150,-175 6150,-125 ; 6150,25 6150,75 ; 6150,225 6150,275 ; 6150,425 6150,475 ; 6150,625 6150,675 ; 6150,825 6150,875 ; 6150,1025 6150,1075 ; 6150,1225 6150,1275 ; 6150,1425 6150,1475

## VG32P [mil]
pads (36):
  round 110 hole 110: 1(150,-1750) 1(150,1750) 1(6200,-1750) 1(6200,1750)
  oct 96.82x96.82 hole 40: A2(6100,1450) A4(6100,1250) A6(6100,1050) A8(6100,850) A10(6100,650) A12(6100,450) A14(6100,250) A16(6100,50) A18(6100,-150) A20(6100,-350) A22(6100,-550) A24(6100,-750) A26(6100,-950) A28(6100,-1150) A30(6100,-1350) A32(6100,-1550) C2(5900,1450) C4(5900,1250) C6(5900,1050) C8(5900,850) C10(5900,650) C12(5900,450) C14(5900,250) C16(5900,50) C18(5900,-150) C20(5900,-350) C22(5900,-550) C24(5900,-750) C26(5900,-950) C28(5900,-1150) C30(5900,-1350) C32(5900,-1550)
Top Layer:
  lines w50: -15,-1694 -15,-1994 285,-1994 ; -15,1694 -15,1994 285,1994 ; 6035,-1994 6335,-1994 6335,-1694 ; 6035,1994 6335,1994 6335,1694
Bottom Layer:
  lines w50: -15,-1694 -15,-1994 285,-1994 ; -15,1694 -15,1994 285,1994 ; 6035,-1994 6335,-1994 6335,-1694 ; 6035,1994 6335,1994 6335,1694
Top Solder:
  lines w6: 10,-1669 10,-1969 310,-1969 ; 10,1669 10,1969 310,1969 ; 6010,-1969 6310,-1969 6310,-1669 ; 6010,1969 6310,1969 6310,1669
Bottom Solder:
  lines w6: 10,-1669 10,-1969 310,-1969 ; 10,1669 10,1969 310,1969 ; 6010,-1969 6310,-1969 6310,-1669 ; 6010,1969 6310,1969 6310,1669
Keep-Out Layer:
  rectangle: 10,1850 6310,1969
  rectangle: 10,1850 6310,1969
  rectangle: 10,-1969 6310,-1850
  rectangle: 10,-1969 6310,-1850
  lines w2: 10,-1615 285,-1615 ; 10,-1615 10,-1969 10,-1615 ; 10,-1615 285,-1615 ; 10,1615 285,1615 ; 10,1615 10,1969 10,1615 ; 10,1615 285,1615 ; 285,-1615 285,-1850 285,-1615 ; 285,1615 285,1850 285,1615 ; 6310,-1969 6310,-1850 6310,-1969 ; 6310,1850 6310,1969 6310,1850
Mechanical 1:
  lines w0: 10,-1969 6310,-1969 6310,1969 10,1969 10,-1969
Mechanical 2:
  circle w6: c6200,1750 r50
  circle w6: c6200,-1750 r50
  circle w6: c150,-1750 r55
  circle w6: c150,1750 r55
  rectangle: 5955,-1560 6045,-1540
  rectangle: 5955,-1360 6045,-1340
  rectangle: 5955,-1160 6045,-1140
  rectangle: 5955,-960 6045,-940
  rectangle: 5955,-760 6045,-740
  rectangle: 5955,-560 6045,-540
  rectangle: 5955,-360 6045,-340
  rectangle: 5955,-160 6045,-140
  rectangle: 5955,40 6045,60
  rectangle: 5955,240 6045,260
  rectangle: 5955,440 6045,460
  rectangle: 5955,640 6045,660
  rectangle: 5955,840 6045,860
  rectangle: 5955,1040 6045,1060
  rectangle: 5955,1240 6045,1260
  rectangle: 5955,1440 6045,1460
  lines w2: 6150,-1525 6310,-1525 6310,-1425 6150,-1425 ; 6150,-1375 6310,-1375 6310,-1225 6150,-1225 ; 6150,-1175 6310,-1175 6310,-825 6150,-825 ; 6150,-775 6310,-775 6310,-425 6150,-425 ; 6150,-375 6310,-375 6310,-25 6150,-25 ; 6150,25 6310,25 6310,375 6150,375 ; 6150,425 6310,425 6310,775 6150,775 ; 6150,825 6310,825 6310,1175 6150,1175 ; 6150,1225 6310,1225 6310,1375 6150,1375 ; 6150,1425 6310,1425 6310,1525 6150,1525
  lines w6: 6150,-1575 6150,-1650 ; 6150,-1525 6150,-1425 6150,-1375 ; 6150,-1325 6150,-1225 6150,-1175 ; 6150,-1125 6150,-975 ; 6150,-925 6150,-825 6150,-775 ; 6150,-725 6150,-575 ; 6150,-525 6150,-425 6150,-375 ; 6150,-325 6150,-175 ; 6150,-125 6150,-25 6150,25 ; 6150,75 6150,225 ; 6150,275 6150,375 6150,425 ; 6150,475 6150,625 ; 6150,675 6150,775 6150,825 ; 6150,875 6150,1025 ; 6150,1075 6150,1175 6150,1225 ; 6150,1275 6150,1375 6150,1425 ; 6150,1475 6150,1525 6150,1650 ; -80,-1850 -80,-2110 -10,-2110 ; -80,-1850 -10,-1850 -10,-2110 ; -80,-1850 -80,1850 ; -80,1850 -10,1850 -10,2110 ; -80,1850 -80,2110 -10,2110 ; -10,-2110 150,-2110 150,-1880 275,-1880 275,-1625 10,-1625 10,1625 275,1625 275,1880 150,1880 150,2110 -10,2110 ; 6150,-1650 6100,-1650 6100,-1850 6313,-1850 ; 6150,-1650 6250,-1650 6313,-1713 6313,-1850 ; 6150,1650 6100,1650 6100,1850 6313,1850 ; 6150,1650 6263,1650 6313,1700 6313,1850 ; 6313,-1850 6375,-1850 6375,-1750 6600,-1750 6600,1750 6375,1750 6375,1850 6313,1850 ; 35,-1750 95,-1650 205,-1650 265,-1750 205,-1850 95,-1850 35,-1750 ; 35,1750 95,1650 205,1650 265,1750 205,1850 95,1850 35,1750
Mechanical 11 keep-out:
  circle w0: c150,1750 r125
  circle w0: c150,-1750 r125
  circle w0: c6200,1750 r90
  circle w0: c6200,-1750 r90
Mechanical 12:
  circle w0: c150,1750 r125
  circle w0: c150,-1750 r125
  circle w0: c6200,1750 r90
  circle w0: c6200,-1750 r90
  rectangle: 10,1850 6310,1969
  rectangle: 10,-1969 6310,-1850
Mechanical 14:
  lines w6: -340,-1969 -290,-1969 ; -340,1969 -290,1969 ; -90,-1969 -290,-1969 ; -90,1969 -290,1969 ; 10,-2319 10,-2269 ; 10,-2069 10,-2269 ; 10,-1669 10,-1969 310,-1969 ; 10,1669 10,1969 310,1969 ; 6010,-1969 6310,-1969 6310,-1669 ; 6010,1969 6310,1969 6310,1669 ; 6310,-2319 6310,-2269 ; 6310,-2069 6310,-2269 ; -290,-1969 -290,1969 ; -290,-1969 -315,-1769 -265,-1769 -290,-1969 ; -290,1969 -265,1769 -315,1769 -290,1969 ; 10,-2269 6310,-2269 ; 10,-2269 210,-2244 210,-2294 10,-2269 ; 6310,-2269 6110,-2294 6110,-2244 6310,-2269
Mechanical 16:
  circle w10: c6100,2499 r100
  circle w10: c200,-2499 r100
  rectangle: 6100,2324 6275,2399
  rectangle: 6200,2399 6275,2599
  rectangle: 6100,2599 6275,2674
  rectangle: 200,-2674 375,-2599
  rectangle: 300,-2599 375,-2399
  rectangle: 200,-2399 375,-2324
  lines w4: 0,-2499 25,-2499 400,-2499 ; 200,-2699 200,-2299 ; 5900,2499 5925,2499 6300,2499 ; 6100,2299 6100,2699
  lines w10: 25,-2674 375,-2674 375,-2324 25,-2324 25,-2499 25,-2674 ; 100,-2599 100,-2399 300,-2399 300,-2599 100,-2599 ; 5925,2324 6275,2324 6275,2674 5925,2674 5925,2499 5925,2324 ; 6000,2399 6000,2599 6200,2599 6200,2399 6000,2399
Mechanical 18:
  rectangle: 5890,-1560 5955,-1540
  rectangle: 6045,-1560 6150,-1540
  rectangle: 5890,-1360 5955,-1340
  rectangle: 6045,-1360 6150,-1340
  rectangle: 5890,-1160 5955,-1140
  rectangle: 6045,-1160 6150,-1140
  rectangle: 5890,-960 5955,-940
  rectangle: 6045,-960 6150,-940
  rectangle: 5890,-760 5955,-740
  rectangle: 6045,-760 6150,-740
  rectangle: 5890,-560 5955,-540
  rectangle: 6045,-560 6150,-540
  rectangle: 5890,-360 5955,-340
  rectangle: 6045,-360 6150,-340
  rectangle: 5890,-160 5955,-140
  rectangle: 6045,-160 6150,-140
  rectangle: 5890,40 5955,60
  rectangle: 6045,40 6150,60
  rectangle: 5890,240 5955,260
  rectangle: 6045,240 6150,260
  rectangle: 5890,440 5955,460
  rectangle: 6045,440 6150,460
  rectangle: 5890,640 5955,660
  rectangle: 6045,640 6150,660
  rectangle: 5890,840 5955,860
  rectangle: 6045,840 6150,860
  rectangle: 5890,1040 5955,1060
  rectangle: 6045,1040 6150,1060
  rectangle: 5890,1240 5955,1260
  rectangle: 6045,1240 6150,1260
  rectangle: 5890,1440 5955,1460
  rectangle: 6045,1440 6150,1460
  lines w6: 6150,-1575 6150,-1525 ; 6150,-1375 6150,-1325 ; 6150,-1175 6150,-1125 ; 6150,-975 6150,-925 ; 6150,-775 6150,-725 ; 6150,-575 6150,-525 ; 6150,-375 6150,-325 ; 6150,-175 6150,-125 ; 6150,25 6150,75 ; 6150,225 6150,275 ; 6150,425 6150,475 ; 6150,625 6150,675 ; 6150,825 6150,875 ; 6150,1025 6150,1075 ; 6150,1225 6150,1275 ; 6150,1425 6150,1475

## VG64 [mil]
pads (66):
  round 110 hole 110: 1(6200,-1750) 1(6200,1750)
  round 63 hole 36: A1(6100,1550)
  oct 61x61 hole 36: A2(6100,1450) A3(6100,1350) A4(6100,1250) A5(6100,1150) A6(6100,1050) A7(6100,950) A8(6100,850) A9(6100,750) A10(6100,650) A11(6100,550) A12(6100,450) A13(6100,350) A14(6100,250) A15(6100,150) A16(6100,50) A17(6100,-50) A18(6100,-150) A19(6100,-250) A20(6100,-350) A21(6100,-450) A22(6100,-550) A23(6100,-650) A24(6100,-750) A25(6100,-850) A26(6100,-950) A27(6100,-1050) A28(6100,-1150) A29(6100,-1250) A30(6100,-1350) A31(6100,-1450) A32(6100,-1550) C1(5900,1550) C2(5900,1450) C3(5900,1350) C4(5900,1250) C5(5900,1150) C6(5900,1050) C7(5900,950) C8(5900,850) C9(5900,750) C10(5900,650) C11(5900,550) C12(5900,450) C13(5900,350) C14(5900,250) C15(5900,150) C16(5900,50) C17(5900,-50) C18(5900,-150) C19(5900,-250) C20(5900,-350) C21(5900,-450) C22(5900,-550) C23(5900,-650) C24(5900,-750) C25(5900,-850) C26(5900,-950) C27(5900,-1050) C28(5900,-1150) C29(5900,-1250) C30(5900,-1350) C31(5900,-1450) C32(5900,-1550)
Top Layer:
  lines w50: -15,-1694 -15,-1994 285,-1994 ; -15,1694 -15,1994 285,1994 ; 6035,-1994 6335,-1994 6335,-1694 ; 6035,1994 6335,1994 6335,1694
Bottom Layer:
  lines w50: -15,-1694 -15,-1994 285,-1994 ; -15,1694 -15,1994 285,1994 ; 6035,-1994 6335,-1994 6335,-1694 ; 6035,1994 6335,1994 6335,1694
Top Solder:
  lines w6: 10,-1669 10,-1969 310,-1969 ; 10,1669 10,1969 310,1969 ; 6010,-1969 6310,-1969 6310,-1669 ; 6010,1969 6310,1969 6310,1669
Bottom Solder:
  lines w6: 10,-1669 10,-1969 310,-1969 ; 10,1669 10,1969 310,1969 ; 6010,-1969 6310,-1969 6310,-1669 ; 6010,1969 6310,1969 6310,1669
Keep-Out Layer:
  rectangle: 10,1850 6310,1969
  rectangle: 10,1850 6310,1969
  rectangle: 10,-1969 6310,-1850
  rectangle: 10,-1969 6310,-1850
  lines w2: 10,-1969 10,-1850 10,-1969 ; 10,1850 10,1969 10,1850 ; 6310,-1969 6310,-1850 6310,-1969 ; 6310,1850 6310,1969 6310,1850
Mechanical 1:
  lines w0: 10,-1969 6310,-1969 6310,1969 10,1969 10,-1969
Mechanical 2:
  circle w6: c6200,1750 r50
  circle w6: c6200,-1750 r50
  rectangle: 6135,1540 6150,1560
  rectangle: 5935,1540 6065,1560
  rectangle: 5935,1440 6065,1460
  rectangle: 5935,1340 6065,1360
  rectangle: 6135,1440 6150,1460
  rectangle: 6135,1340 6150,1360
  rectangle: 6135,1240 6150,1260
  rectangle: 5935,1240 6065,1260
  rectangle: 6135,1140 6150,1160
  rectangle: 6135,1040 6150,1060
  rectangle: 5935,1140 6065,1160
  rectangle: 5935,1040 6065,1060
  rectangle: 5935,940 6065,960
  rectangle: 6135,940 6150,960
  rectangle: 6135,840 6150,860
  rectangle: 5935,840 6065,860
  rectangle: 5935,740 6065,760
  rectangle: 6135,740 6150,760
  rectangle: 5935,640 6065,660
  rectangle: 6135,640 6150,660
  rectangle: 5935,540 6065,560
  rectangle: 6135,540 6150,560
  rectangle: 6135,440 6150,460
  rectangle: 6135,340 6150,360
  rectangle: 5935,440 6065,460
  rectangle: 5935,340 6065,360
  rectangle: 5935,240 6065,260
  rectangle: 6135,240 6150,260
  rectangle: 6135,140 6150,160
  rectangle: 5935,140 6065,160
  rectangle: 5935,40 6065,60
  rectangle: 6135,40 6150,60
  rectangle: 6135,-60 6150,-40
  rectangle: 5935,-60 6065,-40
  rectangle: 6135,-160 6150,-140
  rectangle: 5935,-160 6065,-140
  rectangle: 5935,-260 6065,-240
  rectangle: 6135,-260 6150,-240
  rectangle: 5935,-360 6065,-340
  rectangle: 6135,-360 6150,-340
  rectangle: 6135,-460 6150,-440
  rectangle: 6135,-560 6150,-540
  rectangle: 5935,-460 6065,-440
  rectangle: 5935,-560 6065,-540
  rectangle: 6135,-660 6150,-640
  rectangle: 5935,-660 6065,-640
  rectangle: 5935,-760 6065,-740
  rectangle: 6135,-760 6150,-740
  rectangle: 5935,-860 6065,-840
  rectangle: 6135,-860 6150,-840
  rectangle: 5935,-960 6065,-940
  rectangle: 6135,-960 6150,-940
  rectangle: 5935,-1060 6065,-1040
  rectangle: 6135,-1060 6150,-1040
  rectangle: 5935,-1160 6065,-1140
  rectangle: 6135,-1160 6150,-1140
  rectangle: 5935,-1260 6065,-1240
  rectangle: 6135,-1260 6150,-1240
  rectangle: 6135,-1360 6150,-1340
  rectangle: 5935,-1360 6065,-1340
  rectangle: 5935,-1460 6065,-1440
  rectangle: 6135,-1460 6150,-1440
  rectangle: 6135,-1560 6150,-1540
  rectangle: 5935,-1560 6065,-1540
  lines w2: 6150,-1525 6310,-1525 6310,-1425 6150,-1425 ; 6150,-1375 6310,-1375 6310,-1225 6150,-1225 ; 6150,-1175 6310,-1175 6310,-825 6150,-825 ; 6150,-775 6310,-775 6310,-425 6150,-425 ; 6150,-375 6310,-375 6310,-25 6150,-25 ; 6150,25 6310,25 6310,375 6150,375 ; 6150,425 6310,425 6310,775 6150,775 ; 6150,825 6310,825 6310,1175 6150,1175 ; 6150,1225 6310,1225 6310,1375 6150,1375 ; 6150,1425 6310,1425 6310,1525 6150,1525
  lines w6: 6150,-1650 6100,-1650 6100,-1850 6313,-1850 ; 6150,-1650 6250,-1650 6313,-1713 6313,-1850 ; 6150,-1650 6150,-1525 6150,-1425 6150,-1375 6150,-1225 6150,-1175 6150,-825 6150,-775 6150,-425 6150,-375 6150,-25 6150,25 6150,375 6150,425 6150,775 6150,825 6150,1175 6150,1225 6150,1375 6150,1425 6150,1525 6150,1650 ; 6150,1650 6100,1650 6100,1850 6313,1850 ; 6150,1650 6263,1650 6313,1700 6313,1850 ; 6313,-1850 6375,-1850 6375,-1750 6600,-1750 6600,1750 6375,1750 6375,1850 6313,1850
Mechanical 11 keep-out:
  circle w0: c6200,1750 r90
  circle w0: c6200,-1750 r90
Mechanical 12:
  circle w0: c6200,1750 r90
  circle w0: c6200,-1750 r90
  rectangle: 10,1850 6310,1969
  rectangle: 10,-1969 6310,-1850
Mechanical 14:
  lines w6: -340,-1969 -290,-1969 ; -340,1969 -290,1969 ; -90,-1969 -290,-1969 ; -90,1969 -290,1969 ; 10,-2319 10,-2269 ; 10,-2069 10,-2269 ; 10,-1669 10,-1969 310,-1969 ; 10,1669 10,1969 310,1969 ; 6010,-1969 6310,-1969 6310,-1669 ; 6010,1969 6310,1969 6310,1669 ; 6310,-2319 6310,-2269 ; 6310,-2069 6310,-2269 ; -290,-1969 -290,1969 ; -290,-1969 -315,-1769 -265,-1769 -290,-1969 ; -290,1969 -265,1769 -315,1769 -290,1969 ; 10,-2269 6310,-2269 ; 10,-2269 210,-2244 210,-2294 10,-2269 ; 6310,-2269 6110,-2294 6110,-2244 6310,-2269
Mechanical 16:
  circle w10: c6100,2499 r100
  circle w10: c200,-2499 r100
  rectangle: 6100,2324 6275,2399
  rectangle: 6200,2399 6275,2599
  rectangle: 6100,2599 6275,2674
  rectangle: 200,-2674 375,-2599
  rectangle: 300,-2599 375,-2399
  rectangle: 200,-2399 375,-2324
  lines w4: 0,-2499 25,-2499 400,-2499 ; 200,-2699 200,-2299 ; 5900,2499 5925,2499 6300,2499 ; 6100,2299 6100,2699
  lines w10: 25,-2674 375,-2674 375,-2324 25,-2324 25,-2499 25,-2674 ; 100,-2599 100,-2399 300,-2399 300,-2599 100,-2599 ; 5925,2324 6275,2324 6275,2674 5925,2674 5925,2499 5925,2324 ; 6000,2399 6000,2599 6200,2599 6200,2399 6000,2399
Mechanical 18:
  rectangle: 6065,1540 6135,1560
  rectangle: 5890,1540 5935,1560
  rectangle: 6065,1440 6135,1460
  rectangle: 5890,1440 5935,1460
  rectangle: 5890,1340 5935,1360
  rectangle: 6065,1340 6135,1360
  rectangle: 6065,1240 6135,1260
  rectangle: 5890,1240 5935,1260
  rectangle: 6065,1140 6135,1160
  rectangle: 6065,1040 6135,1060
  rectangle: 5890,1140 5935,1160
  rectangle: 5890,1040 5935,1060
  rectangle: 5890,940 5935,960
  rectangle: 6065,940 6135,960
  rectangle: 6065,840 6135,860
  rectangle: 5890,840 5935,860
  rectangle: 6065,740 6135,760
  rectangle: 5890,740 5935,760
  rectangle: 6065,640 6135,660
  rectangle: 5890,640 5935,660
  rectangle: 5890,540 5935,560
  rectangle: 6065,540 6135,560
  rectangle: 6065,440 6135,460
  rectangle: 6065,340 6135,360
  rectangle: 5890,440 5935,460
  rectangle: 5890,340 5935,360
  rectangle: 5890,240 5935,260
  rectangle: 6065,240 6135,260
  rectangle: 6065,140 6135,160
  rectangle: 5890,140 5935,160
  rectangle: 5890,40 5935,60
  rectangle: 6065,40 6135,60
  rectangle: 6065,-60 6135,-40
  rectangle: 5890,-60 5935,-40
  rectangle: 6065,-160 6135,-140
  rectangle: 5890,-160 5935,-140
  rectangle: 6065,-260 6135,-240
  rectangle: 5890,-260 5935,-240
  rectangle: 5890,-360 5935,-340
  rectangle: 6065,-360 6135,-340
  rectangle: 6065,-460 6135,-440
  rectangle: 5890,-460 5935,-440
  rectangle: 6065,-660 6135,-640
  rectangle: 5890,-660 5935,-640
  rectangle: 6065,-560 6135,-540
  rectangle: 5890,-560 5935,-540
  rectangle: 6065,-760 6135,-740
  rectangle: 5890,-760 5935,-740
  rectangle: 5890,-860 5935,-840
  rectangle: 6065,-860 6135,-840
  rectangle: 6065,-960 6135,-940
  rectangle: 5890,-960 5935,-940
  rectangle: 6065,-1060 6135,-1040
  rectangle: 5890,-1060 5935,-1040
  rectangle: 6065,-1160 6135,-1140
  rectangle: 5890,-1160 5935,-1140
  rectangle: 5890,-1260 5935,-1240
  rectangle: 6065,-1260 6135,-1240
  rectangle: 6065,-1360 6135,-1340
  rectangle: 5890,-1360 5935,-1340
  rectangle: 5890,-1460 5935,-1440
  rectangle: 6065,-1460 6135,-1440
  rectangle: 6065,-1560 6135,-1540
  rectangle: 5890,-1560 5935,-1540